# EAGLE library part LT1124 (library MDB_HOMEBAK)
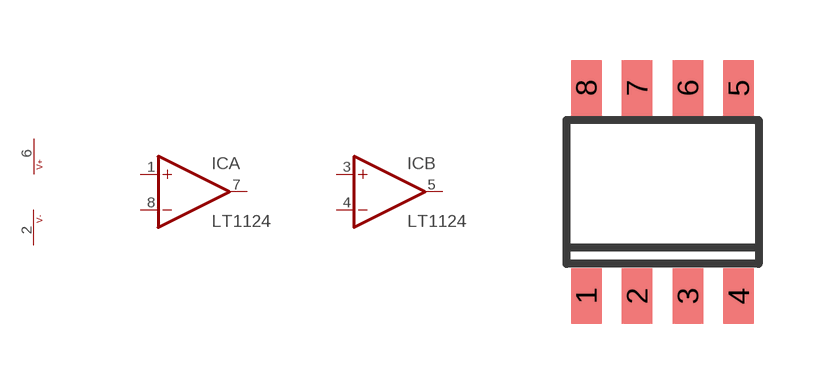
[diagram p43: symbol with the pads of S8; footprint S8]

Designator prefix IC; gates A=OPAMP B=OPAMP G$3=PWR+-

## LT1124S8  [S8]
1  A:+IN  in
2  G$3:V-  pwr
3  B:+IN  in
4  B:-IN  in
5  B:OUT  out
6  G$3:V+  pwr
7  A:OUT  out
8  A:-IN  in

## Footprint S8 (pad centres in mm)
8-Lead Plastic Small Outline Narrow .150 Inch Source: http://cds.linear.com/docs/Datasheet/623012fb.pdf
smd 0.762 x 1.397: 1 -1.905,-2.6; 2 -0.635,-2.6; 3 0.635,-2.6; 4 1.905,-2.6; 5 1.905,2.6; 6 0.635,2.6; 7 -0.635,2.6; 8 -1.905,2.6